# Altium footprint library SI4432-LCC20.PcbLib: 2 footprints
Each footprint in its own frame and in the unit in brackets; x right, y up, seen from the top. Pads: shape width x height; smd on the part's side, far side on the other; paste and mask are expansions set on the pad; w line width, h text height; cw(c..) or ccw(c..) is an arc to the next point about the centre after c.
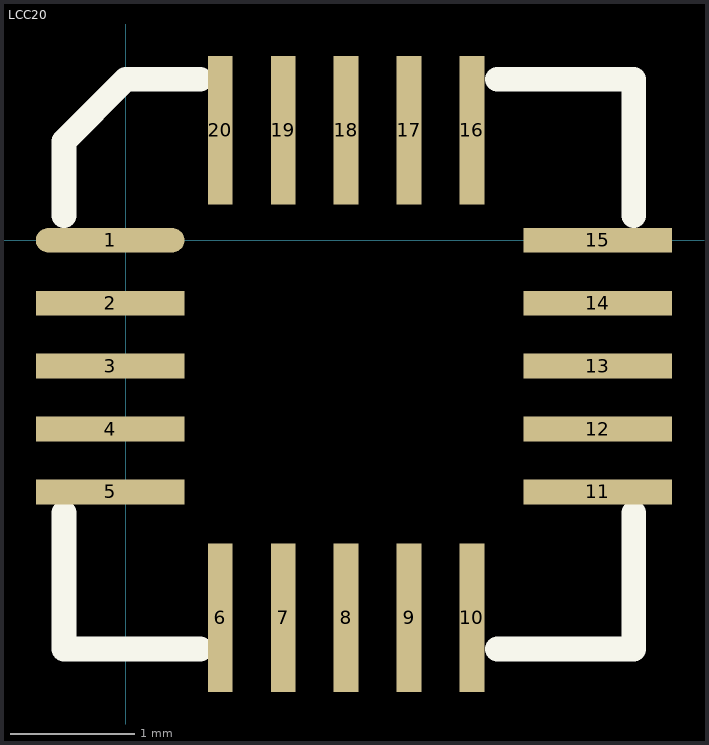
[diagram p0: the footprints below, top view; thin cyan lines are the x and y axes]

## LCC20 [mm]
pads (20):
  oval 1.2x0.2 smd: 1(-0.127,0)
  rect 1.2x0.2 smd: 2(-0.127,-0.508) 3(-0.127,-1.016) 4(-0.127,-1.524) 5(-0.127,-2.032) 11(3.81,-2.032) 12(3.81,-1.524) 13(3.81,-1.016) 14(3.81,-0.508) 15(3.81,0)
  rect 0.2x1.2 smd: 6(0.762,-3.048) 7(1.27,-3.048) 8(1.778,-3.048) 9(2.286,-3.048) 10(2.794,-3.048) 16(2.794,0.889) 17(2.286,0.889) 18(1.778,0.889) 19(1.27,0.889) 20(0.762,0.889)
Top Overlay:
  lines w0.2: -0.5,-2.2 -0.5,-3.3 0.6,-3.3 ; -0.5,0.2 -0.5,0.8 0,1.3 0.6,1.3 ; 3,-3.3 4.1,-3.3 4.1,-2.2 ; 3,1.3 4.1,1.3 4.1,0.2

## PCBComponent_1 [mm]